# Altium footprint library czc.PcbLib: 157 footprints (part 5 of 10)
Each footprint in its own frame and in the unit in brackets; x right, y up, seen from the top. Pads: shape width x height; smd on the part's side, far side on the other; paste and mask are expansions set on the pad; w line width, h text height; cw(c..) or ccw(c..) is an arc to the next point about the centre after c.
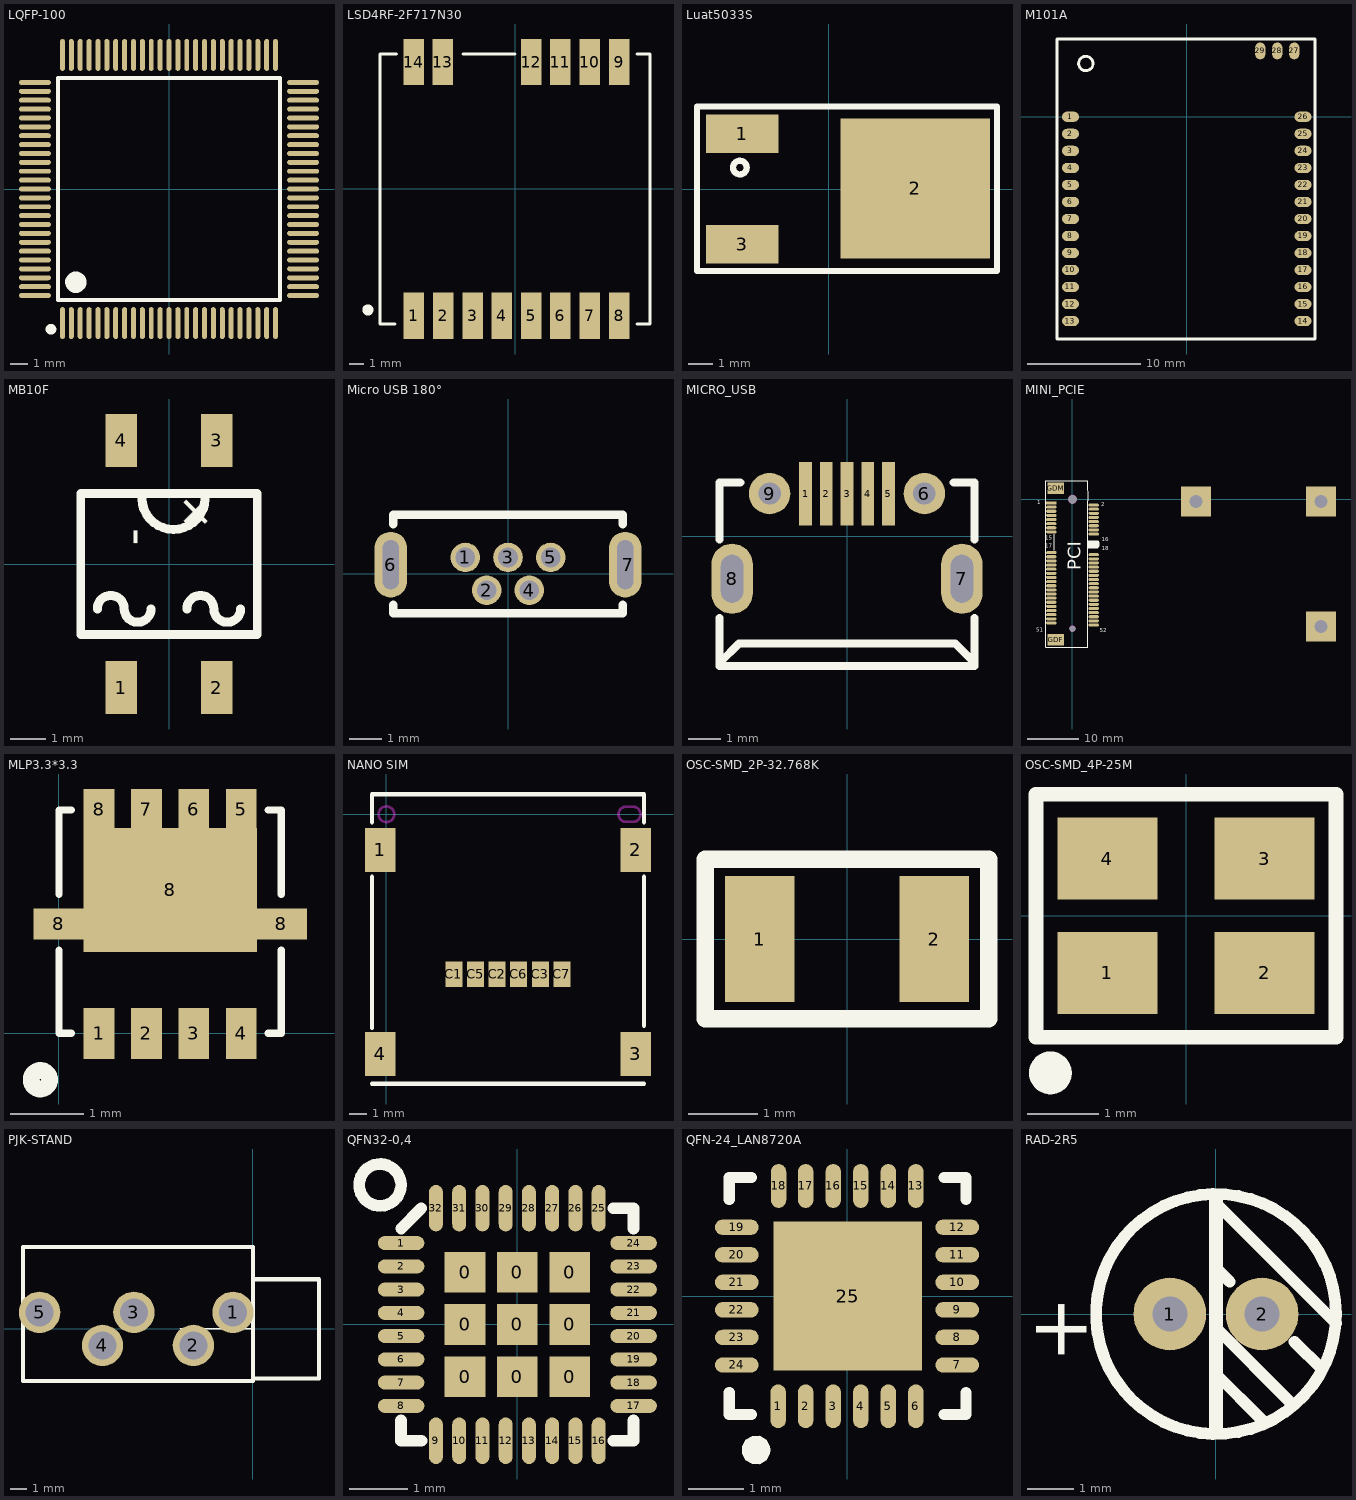
[diagram p4: the footprints below, top view; thin cyan lines are the x and y axes]

## LQFP-100 [mm]
pads (100):
  oval 0.28x1.796 smd: 1(-6,-7.55) 2(-5.5,-7.55) 3(-5,-7.55) 4(-4.5,-7.55) 5(-4,-7.55) 6(-3.5,-7.55) 7(-3,-7.55) 8(-2.5,-7.55) 9(-2,-7.55) 10(-1.5,-7.55) 11(-1,-7.55) 12(-0.5,-7.55) 13(0,-7.55) 14(0.5,-7.55) 15(1,-7.55) 16(1.5,-7.55) 17(2,-7.55) 18(2.5,-7.55) 19(3,-7.55) 20(3.5,-7.55) 21(4,-7.55) 22(4.5,-7.55) 23(5,-7.55) 24(5.5,-7.55) 25(6,-7.55) 51(6,7.55) 52(5.5,7.55) 53(5,7.55) 54(4.5,7.55) 55(4,7.55) 56(3.5,7.55) 57(3,7.55) 58(2.5,7.55) 59(2,7.55) 60(1.5,7.55) 61(1,7.55) 62(0.5,7.55) 63(0,7.55) 64(-0.5,7.55) 65(-1,7.55) 66(-1.5,7.55) 67(-2,7.55) 68(-2.5,7.55) 69(-3,7.55) 70(-3.5,7.55) 71(-4,7.55) 72(-4.5,7.55) 73(-5,7.55) 74(-5.5,7.55) 75(-6,7.55)
  oval 1.796x0.28 smd: 26(7.55,-6) 27(7.55,-5.5) 28(7.55,-5) 29(7.55,-4.5) 30(7.55,-4) 31(7.55,-3.5) 32(7.55,-3) 33(7.55,-2.5) 34(7.55,-2) 35(7.55,-1.5) 36(7.55,-1) 37(7.55,-0.5) 38(7.55,0) 39(7.55,0.5) 40(7.55,1) 41(7.55,1.5) 42(7.55,2) 43(7.55,2.5) 44(7.55,3) 45(7.55,3.5) 46(7.55,4) 47(7.55,4.5) 48(7.55,5) 49(7.55,5.5) 50(7.55,6) 76(-7.55,6) 77(-7.55,5.5) 78(-7.55,5) 79(-7.55,4.5) 80(-7.55,4) 81(-7.55,3.5) 82(-7.55,3) 83(-7.55,2.5) 84(-7.55,2) 85(-7.55,1.5) 86(-7.55,1) 87(-7.55,0.5) 88(-7.55,0) 89(-7.55,-0.5) 90(-7.55,-1) 91(-7.55,-1.5) 92(-7.55,-2) 93(-7.55,-2.5) 94(-7.55,-3) 95(-7.55,-3.5) 96(-7.55,-4) 97(-7.55,-4.5) 98(-7.55,-5) 99(-7.55,-5.5) 100(-7.55,-6)
Top Overlay:
  lines w0.2: -6.25,-6.25 6.25,-6.25 6.25,6.25 -6.25,6.25 -6.25,-6.25
  lines w0.3: -6.65,-7.75 ccw(c-6.648,-7.9) -6.647,-7.75
  lines w0.6: -5.25,-4.95 ccw(c-5.248,-5.25) -5.245,-4.95

## LSD4RF-2F717N30 [mm]
pads (14):
  rect 1.4x3.175 smd: 1(-6.9,-8.65) 2(-4.9,-8.65) 3(-2.9,-8.65) 4(-0.9,-8.65) 5(1.1,-8.65) 6(3.1,-8.65) 7(5.1,-8.65) 8(7.1,-8.65)
  rect 1.4x3.15 smd: 9(7.1,8.65) 10(5.1,8.65) 11(3.1,8.65) 12(1.1,8.65) 13(-4.92,8.65) 14(-6.92,8.65)
Top Overlay:
  circle w0.5: c-10.033,-8.255 r0.127
  lines w0.2: -8.184,-9.2 -9.2,-9.2 -9.2,9.2 -8.072,9.2 ; -3.556,9.2 0,9.2 ; 8.326,-9.2 9.2,-9.2 9.2,9.2 8.326,9.2

## Luat5033S [mil]
pads (3):
  rect 118.1x63 smd: 1(-141.34,90) 3(-141.34,-90)
  rect 244.1x228.34 smd: 2(141.34,1)
Top Overlay:
  circle w10: c-145,35 r11.18
  lines w10: -215,-133.86 -215,135 275,135 275,-133.86 -215,-133.86

## M101A [mm]
pads (29):
  oval 1.5x0.9 smd: 1(-10.25,0) 2(-10.25,-1.5) 3(-10.25,-3) 4(-10.25,-4.5) 5(-10.25,-6) 6(-10.25,-7.5) 7(-10.25,-9) 8(-10.25,-10.5) 9(-10.25,-12) 10(-10.25,-13.5) 11(-10.25,-15) 12(-10.25,-16.5) 13(-10.25,-18) 14(10.25,-18) 15(10.25,-16.5) 16(10.25,-15) 17(10.25,-13.5) 18(10.25,-12) 19(10.25,-10.5) 20(10.25,-9) 21(10.25,-7.5) 22(10.25,-6) 23(10.25,-4.5) 24(10.25,-3) 25(10.25,-1.5) 26(10.25,0)
  oval 0.9x1.5 smd: 27(9.48,5.81) 28(7.98,5.81) 29(6.48,5.81)
Top Overlay:
  lines w0.254: -8.261,4.609 cw(c-8.89,4.699) -8.255,4.699 ; -11.43,-19.583 -11.43,6.858 11.303,6.858 11.303,-19.583 -11.43,-19.583

## MB10F [mm]
pads (4):
  rect 0.9x1.5 smd: 1(-1.35,-3.5) 2(1.35,-3.5) 3(1.35,3.5) 4(-1.35,3.5)
Top Overlay:
  lines w0.254: -2.032,-1.27 cw(c-1.651,-1.27) -1.27,-1.27 ccw(c-0.889,-1.27) -0.508,-1.27 ; -0.762,2 ccw(c0.127,1.876) 1.016,2 ; 0.508,-1.27 cw(c0.889,-1.27) 1.27,-1.27 ccw(c1.651,-1.27) 2.032,-1.27 ; -2.5,-2 2.5,-2 2.5,2 -2.5,2 -2.5,-2
  text "+" at 1.469,1.369 h1
  text "-" at -1.318,1.016 h1

## Micro USB 180° [mm]
pads (7):
  round 0.9 hole 0.6: 1(-1.3,0.5) 2(-0.65,-0.5) 3(0,0.5) 4(0.65,-0.5) 5(1.3,0.5)
  oval 1x1.999 hole 0.5 slot 1.5 at 90 deg: 6(-3.575,0.28) " 7"(3.575,0.28)
Top Overlay:
  lines w0.254: -3.5,-0.947 -3.5,-1.2 3.5,-1.2 3.5,-0.947 ; -3.5,1.507 -3.5,1.8 3.5,1.8 3.5,1.507

## MICRO_USB [mm]
pads (9):
  rect 0.4x2 smd: 1(-1.3,1.327) 2(-0.65,1.327) 3(0,1.327) 4(0.65,1.327) 5(1.3,1.327)
  round 1.3 hole 0.7: 6(2.425,1.335) 9(-2.425,1.335)
  oval 1.3x2.199 hole 0.7 slot 1.5 at 90 deg: 7(3.6,-1.335) 8(-3.6,-1.335)
Top Overlay:
  lines w0.254: -4,-4.073 4,-4.073 4,-2.57 ; -4,-4.052 -4,-2.57 ; -4,-0.1 -4,1.677 -3.344,1.677 ; -3.97,-4.052 -3.97,-3.953 -3.38,-3.363 3.39,-3.363 3.98,-3.953 3.98,-4.073 ; 3.344,1.677 4,1.677 4,-0.1

## MINI_PCIE [mm]
pads (59):
  rect 2x0.6 smd: 1(-4.1,-0.7)
  oval 2x0.6 smd: 2(4.1,-1.1) 3(-4.1,-1.5) 4(4.1,-1.9) 5(-4.1,-2.3) 6(4.1,-2.7) 7(-4.1,-3.1) 8(4.1,-3.5) 9(-4.1,-3.9) 10(4.1,-4.3) 11(-4.1,-4.7) 12(4.1,-5.1) 13(-4.1,-5.5) 14(4.1,-5.9) 15(-4.1,-6.3) 16(4.1,-6.7) 17(-4.1,-10.3) 18(4.1,-10.7) 19(-4.1,-11.1) 20(4.1,-11.5) 21(-4.1,-11.9) 22(4.1,-12.3) 23(-4.1,-12.7) 24(4.1,-13.1) 25(-4.1,-13.5) 26(4.1,-13.9) 27(-4.1,-14.3) 28(4.1,-14.7) 29(-4.1,-15.1) 30(4.1,-15.5) 31(-4.1,-15.9) 32(4.1,-16.3) 33(-4.1,-16.7) 34(4.1,-17.1) 35(-4.1,-17.5) 36(4.1,-17.9) 37(-4.1,-18.3) 38(4.1,-18.7) 39(-4.1,-19.1) 40(4.1,-19.5) 41(-4.1,-19.9) 42(4.1,-20.3) 43(-4.1,-20.7) 44(4.1,-21.1) 45(-4.1,-21.5) 46(4.1,-21.9) 47(-4.1,-22.3) 48(4.1,-22.7) 49(-4.1,-23.1) 50(4.1,-23.5) 51(-4.1,-23.9) 52(4.1,-24.3)
  rect 3.2x2.3 smd: GDF(-3.2,-27.15) GDM(-3.2,2.15)
  round 1.1 hole 1.1 unplated: ""(0,-25)
  round 1.6 hole 1.6 unplated: ""(0,0)
  rect 5.8x5.8 hole 2.54: ""(23.9,-0.4) ""(48.05,-24.6) ""(48.05,-0.4)
Top Overlay:
  region: 2.887,-8.037 2.891,-8.04 4.935,-8.04 4.935,-8.05 5.168,-8.283 5.168,-8.807 5.177,-8.816 5.172,-8.821 5.172,-9.043 4.914,-9.301 4.914,-9.36 2.907,-9.36 2.887,-9.38
  lines w0.178: -3.559,-9.795 -3.559,-6.786 ; 2.887,-9.36 4.914,-9.36 ccw(c4.265,-8.69) 4.935,-8.04 2.887,-8.04 ; -5.207,-28.575 -5.207,-2.63 -5.207,3.592 2.892,3.592 2.902,-0.3 2.902,-28.575 -5.207,-28.575
  text "PCI" at 1.58,-13.677 h2.54
  text "2" at 5.588,-1.372 h0.76
  text "16" at 5.644,-8.089 h0.76
  text "18" at 5.644,-9.867 h0.76
  text "52" at 5.232,-25.654 h0.76
  text "51" at -7.056,-25.615 h0.76
  text "17" at -5.278,-9.359 h0.76
  text "15" at -5.278,-7.835 h0.76
  text "1" at -6.802,-0.977 h0.76
Keep-Out Layer:
  circle w0.178: c0,0 r0.8
  circle w0.178: c0,-25 r0.55

## MLP3.3*3.3 [mm]
pads (11):
  rect 0.42x0.7 smd: 1(0.55,0) 2(1.2,0) 3(1.85,0) 4(2.5,0)
  rect 0.42x0.56 smd: 5(2.5,3.069) 6(1.85,3.069) 7(1.2,3.069) 8(0.55,3.069)
  rect 0.7x0.42 smd: 8(0,1.5) 8(3.048,1.5)
  rect 2.38x1.7 smd: 8(1.524,1.967)
Top Overlay:
  circle w0.23: c-0.254,-0.635 r0.127
  lines w0.1: 0,1.143 0,0 0.17,0 ; 0,1.905 0,3.06 0.17,3.06 ; 2.87,0 3.048,0 3.048,1.143 ; 2.87,3.06 3.048,3.06 3.048,1.905

## NANO SIM [mm]
pads (10):
  rect 1.8x2.6 smd: 1(-0.375,-2.1) 2(14.675,-2.1) 3(14.675,-14.1) 4(-0.375,-14.1)
  rect 1x1.5 smd: C1(3.97,-9.4) C2(6.51,-9.4) C3(9.05,-9.4) C5(5.24,-9.4) C6(7.78,-9.4) C7(10.32,-9.4)
Top Overlay:
  lines w0.254: -0.85,-15.848 15.15,-15.848 ; -0.85,-12.573 -0.85,-3.683 ; -0.85,-0.469 -0.85,1.17 15.15,1.17 15.15,-0.471 ; 15.15,-12.446 15.15,-3.683
Keep-Out Layer:
  circle w0.15: c0,0 r0.46
  lines w0.15: 14.1,-0.45 cw(c14.1,0) 14.1,0.45 14.5,0.45 cw(c14.5,0) 14.5,-0.45 14.1,-0.45

## OSC-SMD_2P-32.768K [mm]
pads (2):
  rect 1x1.8 smd: 1(-1.25,0) 2(1.25,0)
Top Overlay:
  lines w0.254: -2.032,-1.143 2.032,-1.143 2.032,1.143 -2.032,1.143 -2.032,-1.143

## OSC-SMD_4P-25M [mm]
pads (4):
  rect 1.4x1.15 smd: 1(-1.1,-0.8) 2(1.1,-0.8) 3(1.1,0.8) 4(-1.1,0.8)
Top Overlay:
  lines w0.203: -2.1,-1.7 2.1,-1.7 2.1,1.7 -2.1,1.7 -2.1,-1.7
  lines w0.3: -1.9,-2.05 ccw(c-1.899,-2.2) -1.897,-2.05

## PJK-STAND [mm]
pads (5):
  round 2.5 hole 1.7: 1(-1.2,1) 2(-3.6,-1) 3(-7.2,1) 4(-9.1,-1) 5(-12.9,1)
Top Overlay:
  lines w0.1: -4.4,0 0,0
  lines w0.254: 0,-3 4,-3 4,3 0,3 ; -13.9,-3.15 -13.9,4.95 0,4.95 0,-3.15 -13.9,-3.15

## QFN32-0,4 [mm]
pads (41):
  rect 0.7x0.7 smd: 0(-0.9,-0.9) 0(-0.9,0) 0(-0.9,0.9) 0(0,-0.9) 0(0,0) 0(0,0.9) 0(0.9,-0.9) 0(0.9,0) 0(0.9,0.9)
  oval 0.8x0.24 smd: 1(-2,1.4) 2(-2,1) 3(-2,0.6) 4(-2,0.2) 5(-2,-0.2) 6(-2,-0.6) 7(-2,-1) 8(-2,-1.4) 17(2,-1.4) 18(2,-1) 19(2,-0.6) 20(2,-0.2) 21(2,0.2) 22(2,0.6) 23(2,1) 24(2,1.4)
  oval 0.24x0.8 smd: 9(-1.4,-2) 10(-1,-2) 11(-0.6,-2) 12(-0.2,-2) 13(0.2,-2) 14(0.6,-2) 15(1,-2) 16(1.4,-2) 25(1.4,2) 26(1,2) 27(0.6,2) 28(0.2,2) 29(-0.2,2) 30(-0.6,2) 31(-1,2) 32(-1.4,2)
Top Overlay:
  circle w0.2: c-2.361,2.4 r0.361
  lines w0.2: -2,1.65 -1.65,2
  lines w0.203: -2,-1.65 -2,-2 -1.65,-2 ; 1.65,-2 2,-2 2,-1.65 ; 1.65,2 2,2 2,1.65

## QFN-24_LAN8720A [mm]
pads (25):
  oval 0.28x0.796 smd: 1(-1.25,-2) 2(-0.75,-2) 3(-0.25,-2) 4(0.25,-2) 5(0.75,-2) 6(1.25,-2) 13(1.25,2) 14(0.75,2) 15(0.25,2) 16(-0.25,2) 17(-0.75,2) 18(-1.242,2)
  oval 0.796x0.28 smd: 7(2,-1.25) 8(2,-0.75) 9(2,-0.25) 10(2,0.25) 11(2,0.75) 12(2,1.25) 19(-2,1.25) 20(-2,0.75) 21(-2,0.25) 22(-2,-0.25) 23(-2,-0.75) 24(-2,-1.25)
  rect 2.7x2.7 smd: 25(0.013,0)
Top Overlay:
  region: -1.397,-2.792 -1.398,-2.724 -1.466,-2.607 -1.584,-2.539 -1.72,-2.54 -1.838,-2.608 -1.905,-2.726 -1.905,-2.861 -1.838,-2.979 -1.72,-3.047 -1.584,-3.048 -1.466,-2.98 -1.398,-2.863 -1.397,-2.795
  lines w0.2: -2.137,-1.75 -2.137,-2.15 -1.737,-2.15 ; -2.137,1.75 -2.137,2.15 -1.737,2.15 ; 1.763,-2.15 2.163,-2.15 2.163,-1.75 ; 1.763,2.15 2.163,2.15 2.163,1.75

## RAD-2R5 [mil]
pads (2):
  round 62 hole 30: 1(-39.37,0) 2(39.37,0)
Top Overlay:
  circle w10: c0,0 r102.36
  lines w10: 0,-51.18 39.37,-90.55 ; 0,-11.81 62.99,-74.8 ; 0,39.37 11.81,27.56 ; 0,94.49 102.36,-7.87 ; 66.93,-23.62 90.55,-47.24
  lines w12: 0,-98.42 0,98.42
  text "+" at -153.54,15.75 h50